# Altium footprint library Pressure Sensors - Transducers.PcbLib: 2 footprints
Each footprint in its own frame and in the unit in brackets; x right, y up, seen from the top. Pads: shape width x height; smd on the part's side, far side on the other; paste and mask are expansions set on the pad; w line width, h text height; cw(c..) or ccw(c..) is an arc to the next point about the centre after c.
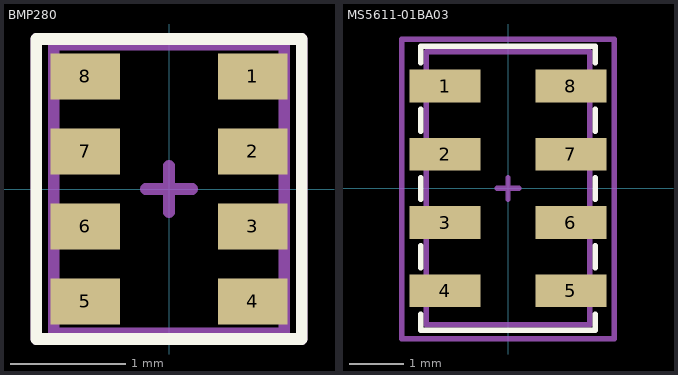
[diagram p0: the footprints below, top view; thin cyan lines are the x and y axes]

## BMP280 [mm]
pads (8):
  rect 0.6x0.4 smd mask+0.05: 1(0.725,0.975) 2(0.725,0.325) 3(0.725,-0.325) 4(0.725,-0.975) 5(-0.725,-0.975) 6(-0.725,-0.325) 7(-0.725,0.325) 8(-0.725,0.975)
Top Overlay:
  lines w0.1: -1.15,-1.3 -1.15,1.3 1.15,1.3 1.15,-1.3 -1.15,-1.3
Top 3D Body:
  lines w0.1: -1,-1.25 1,-1.25 1,1.25 -1,1.25 -1,-1.25
Top Component Center:
  lines w0.1: -0.2,0 0.2,0 ; 0,-0.2 0,0.2 ; -1.15,-1.3 1.15,-1.3 1.15,1.3 -1.15,1.3 -1.15,-1.3
Top Designator:
  lines w0.1: -1.15,-1.3 -1.15,1.3 1.15,1.3 1.15,-1.3 -1.15,-1.3
  text ".Designator" at -0.197,-0.125 h0.5
3D body "BMP280.SLDPRT": height 0.95, standoff -0.02, extent -1.009,-1.25 0.991,1.25

## MS5611-01BA03 [mm]
pads (8):
  rect 1.3x0.6 smd mask+0.05: 1(-1.15,1.875) 2(-1.15,0.625) 3(-1.15,-0.625) 4(-1.15,-1.875) 5(1.15,-1.875) 6(1.15,-0.625) 7(1.15,0.625) 8(1.15,1.875)
Top Overlay:
  lines w0.1: -1.6,-2.3 -1.6,-2.6 1.6,-2.6 1.6,-2.3 ; -1.6,-1.45 -1.6,-1.05 ; -1.6,-0.2 -1.6,0.2 ; -1.6,1.05 -1.6,1.45 ; -1.6,2.3 -1.6,2.6 1.6,2.6 1.6,2.3 ; 1.6,-1.45 1.6,-1.05 ; 1.6,-0.2 1.6,0.2 ; 1.6,1.05 1.6,1.45
Top 3D Body:
  lines w0.1: -1.5,-2.5 1.5,-2.5 1.5,2.5 -1.5,2.5 -1.5,-2.5
Top Component Center:
  lines w0.1: -0.2,0 0.2,0 ; 0,-0.2 0,0.2 ; -1.95,-2.757 1.95,-2.757 1.95,1.2 1.95,2.736 -1.95,2.736 -1.95,-2.757
Top Designator:
  lines w0.1: -1.95,-2.757 -1.95,2.736 1.95,2.736 1.95,1.2 1.95,-2.757 -1.95,-2.757
  text ".Designator" at -0.24,-0.097 h0.5
3D body "MS5611-01BA03--3DModel-STEP-510211.STEP": height 1.1, standoff 0, extent -1.5,-2.5 1.5,2.5